# Altium footprint library bga-case.PcbLib: 4 footprints
Each footprint in its own frame and in the unit in brackets; x right, y up, seen from the top. Pads: shape width x height; smd on the part's side, far side on the other; paste and mask are expansions set on the pad; w line width, h text height; cw(c..) or ccw(c..) is an arc to the next point about the centre after c.
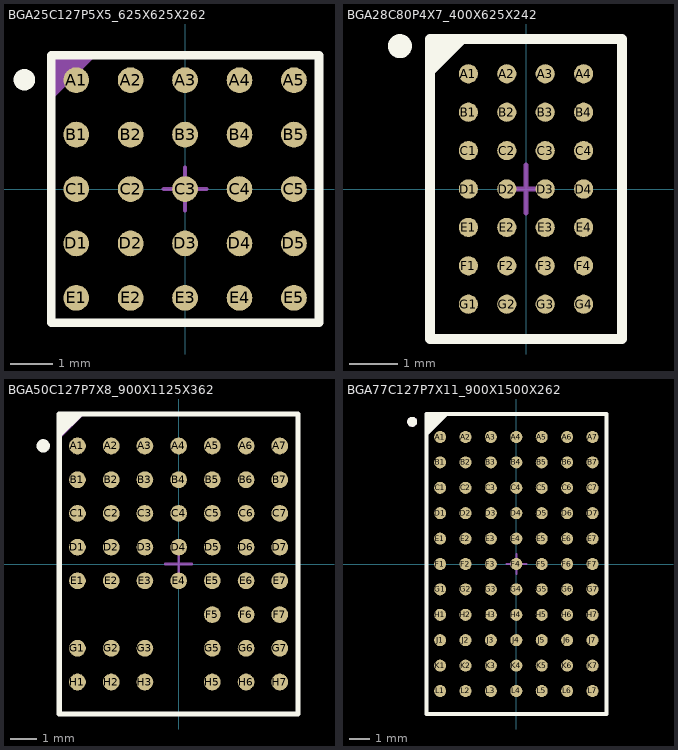
[diagram p0: the footprints below, top view; thin cyan lines are the x and y axes]

## BGA25C127P5X5_625X625X262 [mm] "BGA, 1.27mm Pitch, Square; 25 Pin, 5 Columns X 5 Rows, 6.25mm X 6.25mm X 2.62mm H"
height 2.62
pads (25):
  round 0.6 smd: A1(-2.54,2.54) A2(-1.27,2.54) A3(0,2.54) A4(1.27,2.54) A5(2.54,2.54) B1(-2.54,1.27) B2(-1.27,1.27) B3(0,1.27) B4(1.27,1.27) B5(2.54,1.27) C1(-2.54,0) C2(-1.27,0) C3(0,0) C4(1.27,0) C5(2.54,0) D1(-2.54,-1.27) D2(-1.27,-1.27) D3(0,-1.27) D4(1.27,-1.27) D5(2.54,-1.27) E1(-2.54,-2.54) E2(-1.27,-2.54) E3(0,-2.54) E4(1.27,-2.54) E5(2.54,-2.54)
Top Overlay:
  circle w0.25: c-3.75,2.55 r0.125
  lines w0.2: -3.125,-3.125 3.125,-3.125 3.125,3.125 -3.125,3.125 -3.125,-3.125
Mechanical 1:
  lines w0.1: -3.125,2.321 -2.325,3.121 ; -3.125,2.724 -2.725,3.124 ; -3.125,2.127 -2.125,3.127 ; -3.124,2.424 -2.424,3.124 ; -3.124,2.924 -2.924,3.124 ; -3.124,2.522 -2.524,3.122 ; -3.124,2.822 -2.824,3.122 ; -3.123,3.024 -3.023,3.124 ; -3.122,2.624 -2.622,3.124 ; -3.119,2.224 -2.219,3.124 ; -3.125,-3.125 3.125,-3.125 3.125,3.125 -3.125,3.125 -3.125,-3.125
  text "E" at -3.81,-2.667 h0.4
  text "D" at -3.81,-1.397 h0.4
  text "C" at -3.81,-0.127 h0.4
  text "B" at -3.81,1.143 h0.4
  text "A" at -3.81,2.413 h0.4
  text "1" at -2.667,3.564 h0.4
  text "2" at -1.397,3.564 h0.4
  text "3" at -0.127,3.564 h0.4
  text "4" at 1.143,3.564 h0.4
  text "5" at 2.413,3.564 h0.4
Mechanical 15:
  lines w0.1: -0.5,0 0.5,0 ; 0,-0.5 0,0.5 ; -3.125,-3.125 3.125,-3.125 3.125,3.125 -3.125,3.125 -3.125,-3.125
3D body "BGA25C127P5X5_625X625X262.stp": height 2.62, standoff 0, extent -3.125,-3.125 3.125,3.125

## BGA28C80P4X7_400X625X242 [mm] "BGA, 28-Leads, Body 4,00x6,25mmx2,42mm, Pitch 0,80mm"
height 2.42
pads (28):
  round 0.4 smd: A1(-1.2,2.4) A2(-0.4,2.4) A3(0.4,2.4) A4(1.2,2.4) B1(-1.2,1.6) B2(-0.4,1.6) B3(0.4,1.6) B4(1.2,1.6) C1(-1.2,0.8) C2(-0.4,0.8) C3(0.4,0.8) C4(1.2,0.8) D1(-1.2,0) D2(-0.4,0) D3(0.4,0) D4(1.2,0) E1(-1.2,-0.8) E2(-0.4,-0.8) E3(0.4,-0.8) E4(1.2,-0.8) F1(-1.2,-1.6) F2(-0.4,-1.6) F3(0.4,-1.6) F4(1.2,-1.6) G1(-1.2,-2.4) G2(-0.4,-2.4) G3(0.4,-2.4) G4(1.2,-2.4)
Top Overlay:
  circle w0.25: c-2.625,2.975 r0.125
  region: -1.324,3.125 -2,2.449 -2,3.125
  lines w0.2: -2,2.449 -1.324,3.125 ; -2,-3.125 2,-3.125 2,3.125 -2,3.125 -2,-3.125
Mechanical 1:
  region: -1.324,3.125 -2,2.449 -2,3.125
  lines w0.1: -2,2.449 -1.324,3.125 ; -2,-3.125 2,-3.125 2,3.125 -2,3.125 -2,-3.125
  text "4" at 1.05,3.4 h0.4
  text "3" at 0.3,3.4 h0.4
  text "2" at -0.525,3.4 h0.4
  text "1" at -1.275,3.4 h0.4
  text "G" at -2.846,-2.6 h0.4
  text "F" at -2.846,-1.8 h0.4
  text "E" at -2.846,-1 h0.4
  text "D" at -2.846,-0.2 h0.4
  text "C" at -2.846,0.6 h0.4
  text "B" at -2.846,1.4 h0.4
  text "A" at -2.846,2.225 h0.4
Mechanical 15:
  lines w0.1: -0.5,0 0.5,0 ; 0,-0.5 0,0.5 ; -2,-3.125 2,-3.125 2,3.125 -2,3.125 -2,-3.125
3D body "BGA28C80P4X7_400X625X242.step": height 2.42, standoff 0, extent -2,-3.125 2,3.125

## BGA50C127P7X8_900X1125X362 [mm] "BGA, 1.27mm Pitch, rectangular; 50 Pin, 7 Columns X 8 Rows,9.00mm X 11.25mm X 3.62mm H"
height 3.62
pads (50):
  round 0.63 smd: A1(-3.81,4.445) A2(-2.54,4.445) A3(-1.27,4.445) A4(0,4.445) A5(1.27,4.445) A6(2.54,4.445) A7(3.81,4.445) B1(-3.81,3.175) B2(-2.54,3.175) B3(-1.27,3.175) B4(0,3.175) B5(1.27,3.175) B6(2.54,3.175) B7(3.81,3.175) C1(-3.81,1.905) C2(-2.54,1.905) C3(-1.27,1.905) C4(0,1.905) C5(1.27,1.905) C6(2.54,1.905) C7(3.81,1.905) D1(-3.81,0.635) D2(-2.54,0.635) D3(-1.27,0.635) D4(0,0.635) D5(1.27,0.635) D6(2.54,0.635) D7(3.81,0.635) E1(-3.81,-0.635) E2(-2.54,-0.635) E3(-1.27,-0.635) E4(0,-0.635) E5(1.27,-0.635) E6(2.54,-0.635) E7(3.81,-0.635) F5(1.27,-1.905) F6(2.54,-1.905) F7(3.81,-1.905) G1(-3.81,-3.175) G2(-2.54,-3.175) G3(-1.27,-3.175) G5(1.27,-3.175) G6(2.54,-3.175) G7(3.81,-3.175) H1(-3.81,-4.445) H2(-2.54,-4.445) H3(-1.27,-4.445) H5(1.27,-4.445) H6(2.54,-4.445) H7(3.81,-4.445)
Top Overlay:
  circle w0.25: c-5.1,4.45 r0.125
  lines w0.2: -4.5,4.85 -3.7,5.65 ; -4.5,5.05 -3.9,5.65 ; -4.5,5.25 -4.1,5.65 ; -4.5,5.45 -4.3,5.65 ; -4.5,-5.65 4.5,-5.65 4.5,5.65 -4.5,5.65 -4.5,-5.65
Mechanical 1:
  lines w0.1: -4.5,4.75 -3.6,5.65 ; -4.5,4.85 -3.7,5.65 ; -4.5,4.95 -3.8,5.65 ; -4.5,5.05 -3.9,5.65 ; -4.5,5.15 -4,5.65 ; -4.5,5.25 -4.1,5.65 ; -4.5,5.35 -4.2,5.65 ; -4.5,5.45 -4.3,5.65 ; -4.5,5.55 -4.4,5.65 ; -4.5,-5.65 4.5,-5.65 4.5,5.65 -4.5,5.65 -4.5,-5.65
  text "H" at -5.326,-4.572 h0.4
  text "G" at -5.326,-3.302 h0.4
  text "F" at -5.326,-2.032 h0.4
  text "E" at -5.326,-0.762 h0.4
  text "D" at -5.326,0.508 h0.4
  text "C" at -5.326,1.778 h0.4
  text "B" at -5.326,3.048 h0.4
  text "A" at -5.326,4.318 h0.4
  text "1" at -3.937,5.907 h0.4
  text "2" at -2.667,5.907 h0.4
  text "3" at -1.397,5.907 h0.4
  text "4" at -0.127,5.907 h0.4
  text "7" at 3.683,5.907 h0.4
  text "6" at 2.413,5.907 h0.4
  text "5" at 1.143,5.907 h0.4
Mechanical 15:
  lines w0.1: -0.5,0 0.5,0 ; 0,-0.5 0,0.5 ; -4.5,-5.65 -4.5,5.65 4.5,5.65 4.5,-5.65 -4.5,-5.65
3D body "BGA50C127P7X8_900X1125X362.stp": height 3.62, standoff 0, extent -4.5,-5.625 4.5,5.625

## BGA77C127P7X11_900X1500X262 [mm] "BGA, 1.27mm Pitch, Rect.; 77 Pin, 7 Columns X 11 Rows, 9.00mm X 15.00mm X 2.62mm H"
height 2.62
pads (77):
  round 0.6 smd: A1(-3.81,6.35) A2(-2.54,6.35) A3(-1.27,6.35) A4(0,6.35) A5(1.27,6.35) A6(2.54,6.35) A7(3.81,6.35) B1(-3.81,5.08) B2(-2.54,5.08) B3(-1.27,5.08) B4(0,5.08) B5(1.27,5.08) B6(2.54,5.08) B7(3.81,5.08) C1(-3.81,3.81) C2(-2.54,3.81) C3(-1.27,3.81) C4(0,3.81) C5(1.27,3.81) C6(2.54,3.81) C7(3.81,3.81) D1(-3.81,2.54) D2(-2.54,2.54) D3(-1.27,2.54) D4(0,2.54) D5(1.27,2.54) D6(2.54,2.54) D7(3.81,2.54) E1(-3.81,1.27) E2(-2.54,1.27) E3(-1.27,1.27) E4(0,1.27) E5(1.27,1.27) E6(2.54,1.27) E7(3.81,1.27) F1(-3.81,0) F2(-2.54,0) F3(-1.27,0) F4(0,0) F5(1.27,0) F6(2.54,0) F7(3.81,0) G1(-3.81,-1.27) G2(-2.54,-1.27) G3(-1.27,-1.27) G4(0,-1.27) G5(1.27,-1.27) G6(2.54,-1.27) G7(3.81,-1.27) H1(-3.81,-2.54) H2(-2.54,-2.54) H3(-1.27,-2.54) H4(0,-2.54) H5(1.27,-2.54) H6(2.54,-2.54) H7(3.81,-2.54) J1(-3.81,-3.81) J2(-2.54,-3.81) J3(-1.27,-3.81) J4(0,-3.81) J5(1.27,-3.81) J6(2.54,-3.81) J7(3.81,-3.81) K1(-3.81,-5.08) K2(-2.54,-5.08) K3(-1.27,-5.08) K4(0,-5.08) K5(1.27,-5.08) K6(2.54,-5.08) K7(3.81,-5.08) L1(-3.81,-6.35) L2(-2.54,-6.35) L3(-1.27,-6.35) L4(0,-6.35) L5(1.27,-6.35) L6(2.54,-6.35) L7(3.81,-6.35)
Top Overlay:
  circle w0.25: c-5.205,7.112 r0.125
  lines w0.2: -4.5,6.5 -3.5,7.5 ; -4.5,6.7 -3.7,7.5 ; -4.5,6.9 -3.9,7.5 ; -4.5,7.1 -4.1,7.5 ; -4.5,7.3 -4.3,7.5 ; -4.5,-7.5 4.5,-7.5 4.5,7.5 -4.5,7.5 -4.5,-7.5
Mechanical 1:
  circle w0.25: c-5.205,7.112 r0.125
  lines w0.1: -4.5,6.5 -3.5,7.5 ; -4.5,6.6 -3.6,7.5 ; -4.5,6.7 -3.7,7.5 ; -4.5,6.8 -3.8,7.5 ; -4.5,6.9 -3.9,7.5 ; -4.5,7 -4,7.5 ; -4.5,7.1 -4.1,7.5 ; -4.5,7.2 -4.2,7.5 ; -4.5,7.3 -4.3,7.5 ; -4.5,7.4 -4.4,7.5 ; -4.5,-7.5 4.5,-7.5 4.5,7.5 -4.5,7.5 -4.5,-7.5
  text "L" at -5.08,-6.477 h0.4
  text "K" at -5.08,-5.207 h0.4
  text "J" at -5.08,-3.937 h0.4
  text "H" at -5.08,-2.667 h0.4
  text "G" at -5.08,-1.397 h0.4
  text "F" at -5.08,-0.127 h0.4
  text "E" at -5.08,1.143 h0.4
  text "D" at -5.08,2.413 h0.4
  text "C" at -5.08,3.683 h0.4
  text "B" at -5.08,4.953 h0.4
  text "A" at -5.08,6.223 h0.4
  text "1" at -3.937,7.874 h0.4
  text "2" at -2.667,7.874 h0.4
  text "3" at -1.397,7.874 h0.4
  text "4" at -0.127,7.874 h0.4
  text "5" at 1.143,7.874 h0.4
  text "6" at 2.413,7.874 h0.4
  text "7" at 3.683,7.874 h0.4
Mechanical 15:
  lines w0.1: -0.5,0 0.5,0 ; 0,-0.5 0,0.5 ; -4.5,-7.5 -4.5,7.5 4.5,7.5 4.5,-7.5 -4.5,-7.5
3D body "BGA77C127P7X11_900X1500X262.stp": height 2.62, standoff 0, extent -4.5,-7.5 4.5,7.5